# EAGLE library part DUP2201MR6 (library monitoring_board)
ON Semiconductor (R) -- ESD Protection Diode -- Low Clamping Voltage TSOP-6 Low Capacitance Diode Surge Protection array 550 watts peak power 6 volts Modell: NUP2201MR6 Source: https://www.onsemi.com/pub/Collateral/NUP2201MR6-D.PDF
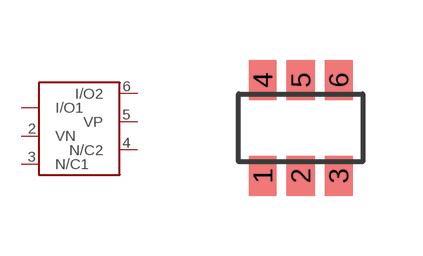
[diagram p1: symbol with the pads of NUP2201MR6; footprint NUP2201MR6]

Designator prefix -

## DUP2201MR6  [NUP2201MR6]
1  I/O1
2  VN
3  N/C1
4  N/C2
5  VP
6  I/O2

## Footprint NUP2201MR6 (pad centres in mm)
smd 0.7 x 1: 1 -0.95,-1.2; 2 0,-1.2; 3 0.95,-1.2; 4 -0.95,1.2; 5 0,1.2; 6 0.95,1.2